# Altium schematic symbol library StandardTest.SchLib: 10 symbols
Pins are listed as number, name and electrical type; pins without a type are passive.

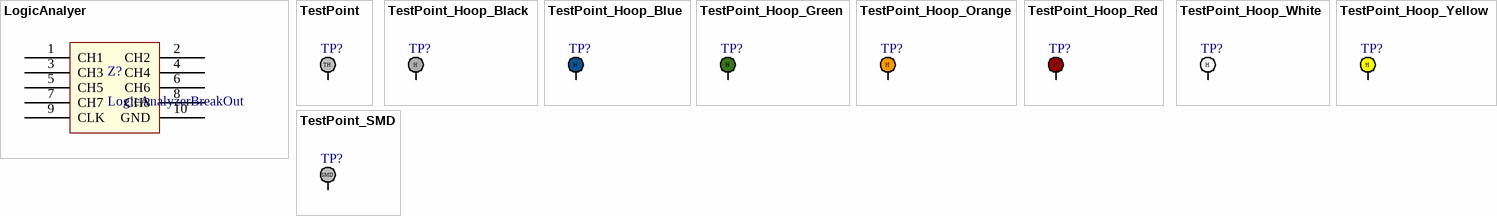
[diagram p0: symbols LogicAnalyer to TestPoint_SMD]

## LogicAnalyer
designator Z?, comment LogicAnalyzerBreakOut
footprint LogicAnalyzer
pins: 1 CH1, 2 CH2, 3 CH3, 4 CH4, 5 CH5, 6 CH6, 7 CH7, 8 CH8, 9 CLK, 10 GND

## TestPoint
designator TP?
footprint TestPoint
pins: 1
text: TH

## TestPoint_Hoop_Black
designator TP?
footprint TestPointHoop_BLACK
pins: 1
text: H

## TestPoint_Hoop_Blue
designator TP?
footprint TestPointHoop_BLUE
pins: 1
text: H

## TestPoint_Hoop_Green
designator TP?
footprint TestPointHoop_GREEN
pins: 1
text: H

## TestPoint_Hoop_Orange
designator TP?
footprint TestPointHoop_ORANGE
pins: 1
text: H

## TestPoint_Hoop_Red
designator TP?
footprint TestPointHoop_RED
pins: 1
text: H

## TestPoint_Hoop_White
designator TP?
footprint TestPointHoop_WHITE
pins: 1
text: H

## TestPoint_Hoop_Yellow
designator TP?
footprint TestPointHoop_YELLOW
pins: 1
text: H

## TestPoint_SMD
designator TP?
footprint TestPointSMD
pins: 1
text: SMD